# Altium schematic symbol library My library.SCHLIB: 126 symbols
Pins are listed as number, name and electrical type; pins without a type are passive.

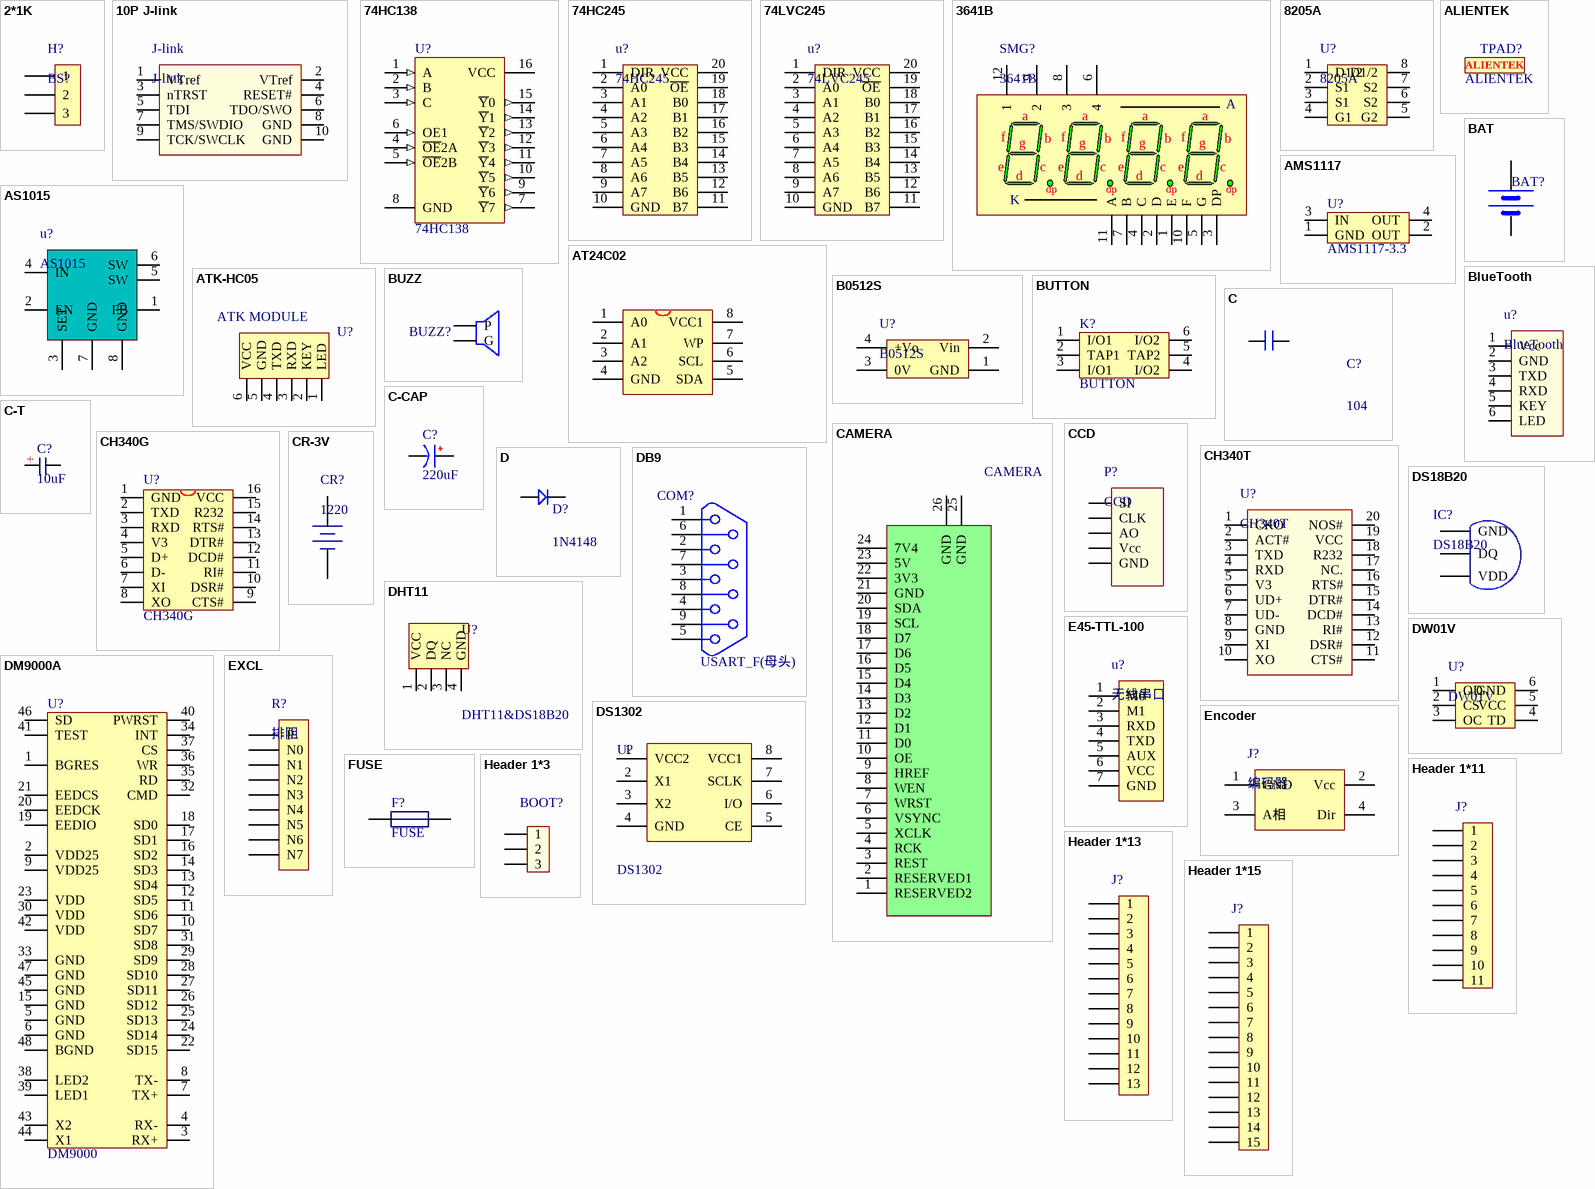
[diagram p0: symbols 2*1K to Header 1*15]

## 2*1K
designator H?, comment BS?
OLED模式选择电阻焊盘
footprint BS (Footprint not found)
pins: 1, 2, 3

## 10P J-link
designator J-link, comment J-link
footprint 10P J-link
footprint 10P J-link-S
pins: 1 VTref, 2 VTref, 3 nTRST, 4 RESET#, 5 TDI, 6 TDO/SWO, 7 TMS/SWDIO, 8 GND, 9 TCK/SWCLK, 10 GND

## 74HC138
designator U?
138译码器; Published: 17-Jul-2002; LatestRevisionDate: 13-Apr-2006; LatestRevisionNote: IPC-7351 Footprint Added.; DatasheetVersion: Nov-1999; PackageVersion: 2000; PackageReference: M16D; Publisher: Altium Limited; PackageDescription: 16-Pin Small Outline Package 1.27 mm Pitch; ComponentLink1Description: Manufacturer Link; ComponentLink1URL: http://www.fairchildsemi.com/; ComponentLink2Description: Datasheet; ComponentLink2URL: http://www.fairchildsemi.com/ds/74%2F74AC138.pdf
footprint NSO16_M (SOIC, 16-Leads, Body 9.9x3.9mm, Pitch 1.27mm, IPC Low Density)
pins: 1 A (in), 2 B (in), 3 C (in), 4 ~{OE}2A (in), 5 ~{OE}2B (in), 6 OE1 (in), 7 ~{Y}7 (out), 8 GND (power), 9 ~{Y}6 (out), 10 ~{Y}5 (out), 11 ~{Y}4 (out), 12 ~{Y}3 (out), 13 ~{Y}2 (out), 14 ~{Y}1 (out), 15 ~{Y}0 (out), 16 VCC (power)

## 74HC245
designator u?
footprint Sop-20 (74ls244)
pins: 1 DIR, 2 A0, 3 A1, 4 A2, 5 A3, 6 A4, 7 A5, 8 A6, 9 A7, 10 GND, 11 B7, 12 B6, 13 B5, 14 B4, 15 B3, 16 B2, 17 B1, 18 B0, 19 ~{OE}, 20 VCC

## 74LVC245
designator u?
footprint TSSop20 (Shrink Small Outline; 20 Leads; Body Width 4.4 mm; Pitch 0.65 mm)
pins: 1 DIR, 2 A0, 3 A1, 4 A2, 5 A3, 6 A4, 7 A5, 8 A6, 9 A7, 10 GND, 11 B7, 12 B6, 13 B5, 14 B4, 15 B3, 16 B2, 17 B1, 18 B0, 19 ~{OE}, 20 VCC

## 3641B
designator SMG?
0.36寸4位共阳数码管; 版权归属: 源创客; BOM名称: 0.36寸4位共阳; 学习资源: www.ooocke.com
footprint SMG 0.36-4P (30*14*7.2mm(长宽厚))
pins: 1 E "Anode", 2 D "Anode", 3 DP "Anode", 4 C "Anode", 5 G "Anode", 6 4 "Cathode", 7 B "Anode", 8 3 "Anode", 9 2 "Anode", 10 F "Anode", 11 A "Anode", 12 1 "Cathode"
text: a; f; b; g; e; c; d; dp; K

## 8205A
designator U?
共漏极双MOS
footprint SOT-23-6
footprint TSSOP-8
pins: 1 D1/2, 2 S1, 3 S1, 4 G1, 5 G2, 6 S2, 7 S2, 8 D1/2

## ALIENTEK
designator TPAD?
footprint ALIENTEK_PAD1

## AMS1117
designator U?, comment AMS1117-3.3
footprint AMS1117
pins: 1 GND, 2 OUT, 3 IN, 4 OUT

## AS1015
designator u?
舵机调压芯片
footprint sop-8
pins: 1 FB, 2 EN, 3 SET, 4 IN, 5 SW, 6 SW, 7 GND, 8 GND

## AT24C02
designator U?, comment 24C02
footprint SOP-8 (SOP)
pins: 1 A0, 2 A1, 3 A2, 4 GND, 5 SDA, 6 SCL, 7 WP, 8 VCC1

## ATK-HC05
designator U?, comment ATK MODULE
ATK-HC05
footprint HEAD6
pins: 1 LED, 2 KEY, 3 RXD, 4 TXD, 5 GND, 6 VCC

## B0512S
designator U?
5—12V升压芯片
footprint B0512S
pins: 1 GND, 2 Vin, 3 0V, 4 +Vo

## BAT
designator BAT?, comment BATT  (value not drawn)
footprint BATM (BAT)
pins: 1 VCC, 2 GND

## BlueTooth
designator u?
蓝牙
footprint Bluetooth
pins: 1 Vcc, 2 GND, 3 TXD, 4 RXD, 5 KEY, 6 LED

## BUTTON
designator K?
footprint BTN8.5*8.5 (8.5MM*8.5MM)
footprint BTN7*7 (7mm*7mm)
pins: 1 I/O1, 2 TAP1, 3 I/O1, 4 I/O2, 5 TAP2, 6 I/O2

## BUZZ
designator BUZZ?  (value not drawn)
蜂鸣器
footprint BUZZ0.25
footprint BELL-5
footprint BUZZ_8
pins: 1 P, 2 G

## C
designator C?, comment 104
无极性贴片电容
footprint 0805
footprint 0603
pins: 1, 2

## C-CAP
designator C?, comment 220uF
直插电解电容
footprint CAP 1.5*4*8 (脚距1.5mm直径4mm高度8mm)
footprint CAP 2.0*5*11 (脚距2mm直径5mm高度11mm)
footprint CAP 2.5*5*11 (脚距2.5mm直径5mm高度11mm)
footprint CAP 2.5*6.3*7 (脚距2.5mm直径6.3mm高度7mm)
footprint CAP 3.5*8*11.5 (脚距3.5mm直径8mm高度11.5mm)
footprint CAP 5.0*10*12.5 (脚距5mm直径10mm高度12.5mm)
footprint CAP 7.5*16*25 (脚距7.5mm直径16mm高度25mm)
footprint CAP 10*22*31.5 (脚距10mm直径22mm高度31.5mm)
pins: 1 VCC, 2 GND

## C-T
designator C?, comment 10uF
钽电容
footprint C3216-A (Footprint not found)
footprint C3528-B (Footprint not found)
footprint C6032-C
footprint C7343-D/E
footprint C7361-V
pins: 1, 2
text: +

## CAMERA
designator CAMERA  (value not drawn)
鹰眼
footprint FH12-24S-0.5SH (Connector; FH12 Series; 24 Position; 0.5mm Spaced Bottom Contact)
footprint YINGYAN (Connector; FH12 Series; 24 Position; 0.5mm Spaced Bottom Contact)
footprint YINGYAN_PUSH
pins: 1 RESERVED2, 2 RESERVED1, 3 REST, 4 RCK, 5 XCLK, 6 VSYNC, 7 WRST, 8 WEN, 9 HREF, 10 OE, 11 D0, 12 D1, 13 D2, 14 D3, 15 D4, 16 D5, 17 D6, 18 D7, 19 SCL, 20 SDA, 21 GND, 22 3V3, 23 5V, 24 7V4, 25 GND, 26 GND

## CCD
designator P?
蓝宙CCD
footprint CCD-5
pins: 1 SI, 2 CLK, 3 AO, 4 Vcc, 5 GND

## CH340G
designator U?
USB2UART
footprint SOP16M
pins: 1 GND, 2 TXD, 3 RXD, 4 V3, 5 D+, 6 D-, 7 XI, 8 XO, 9 CTS#, 10 DSR#, 11 RI#, 12 DCD#, 13 DTR#, 14 RTS#, 15 R232, 16 VCC

## CH340T
designator U?
USB2UART
footprint SSOP20_N (7.2*7.8*1.6（长宽高）)
pins: 1 CKO, 2 ACT#, 3 TXD, 4 RXD, 5 V3, 6 UD+, 7 UD-, 8 GND, 9 XI, 10 XO, 11 CTS#, 12 DSR#, 13 RI#, 14 DCD#, 15 DTR#, 16 RTS#, 17 NC., 18 R232, 19 VCC, 20 NOS#

## CR-3V
designator CR?, comment 1220
微型电池; 版权归属: 源创客; BOM名称: 微型电池; 学习资源: www.ooocke.com
footprint CR1220 (纽扣电池座)
pins: 1 DC+, 2 DC-

## D
designator D?, comment 1N4148
二极管
footprint SOD-123
footprint DIODE_SOP (4148)
footprint DIODE-L (6A10)
footprint DIODE-M (1N5822)
footprint DIODE_S (1N4007)
footprint DIODE_3*5.3 (ME:SS14/SS24;L:5.3mm;W:3mm;)
footprint DIODE_4*5.6 (ME:RS2J.L:5.6mm;W:4mm)
footprint DIODE_6.2*8.13 (ME:RS2J.L:8.13mm;W:6.2mm)
pins: 1, 2

## DB9
designator COM?, comment USART_F(母头)
标准串口
footprint DB9
pins: 1, 2, 3, 4, 5, 6, 7, 8, 9
2 alternate drawings of the same symbol

## DHT11
designator U?, comment DHT11&DS18B20
数字温湿度传感器
footprint DHT11 (2.54mm)
pins: 1 VCC, 2 DQ, 3 NC, 4 GND

## DM9000A
designator U?, comment DM9000
footprint LQFP48S (DPIN-0.5)
footprint mTQFP48 (5.8mm)
pins: 1 BGRES, 2 VDD25, 3 RX+, 4 RX-, 5 GND, 6 GND, 7 TX+, 8 TX-, 9 VDD25, 10 SD7, 11 SD6, 12 SD5, 13 SD4, 14 SD3, 15 GND, 16 SD2, 17 SD1, 18 SD0, 19 EEDIO, 20 EEDCK, 21 EEDCS, 22 SD15, 23 VDD, 24 SD14, 25 SD13, 26 SD12, 27 SD11, 28 SD10, 29 SD9, 30 VDD, 31 SD8, 32 CMD, 33 GND, 34 INT, 35 RD, 36 WR, 37 CS, 38 LED2, 39 LED1, 40 PWRST, 41 TEST, 42 VDD, 43 X2, 44 X1, 45 GND, 46 SD, 47 GND, 48 BGND

## DS18B20
designator IC?
数字温度计; 版权归属: 源创客; BOM名称: 数字温度计; 学习资源: www.ooocke.com
footprint TO92A (92晶体管)
pins: 1 GND, 2 DQ, 3 VDD

## DS1302
designator U?
实时时钟芯片; 版权归属: 源创客; BOM名称: 实时时钟芯片; 学习资源: www.ooocke.com
footprint SOP-8
pins: 1 VCC2, 2 X1, 3 X2, 4 GND, 5 CE, 6 I/O, 7 SCLK, 8 VCC1

## DW01V
designator U?
一节锂电池保护IC
footprint SOT-23-6
pins: 1 OD, 2 CS, 3 OC, 4 TD, 5 VCC, 6 GND

## E45-TTL-100
designator u?, comment 无线串口
footprint E45-TTL-100
pins: 1 M0, 2 M1, 3 RXD, 4 TXD, 5 AUX, 6 VCC, 7 GND

## Encoder
designator J?, comment 编码器
footprint PH254*4
footprint XH2.54*4-w
footprint SMT - 4
pins: 1 GND, 2 Vcc, 3 A相, 4 Dir

## EXCL
designator R?, comment 排阻
footprint HDR1X9
pins: 1 P, 2 N0, 3 N1, 4 N2, 5 N3, 6 N4, 7 N5, 8 N6, 9 N7

## FUSE
designator F?
自恢复熔断器
footprint 1206
pins: 1, 2

## Header 1*3
designator BOOT?
footprint HDR1*3
pins: 1, 2, 3

## Header 1*11
designator J?  (value not drawn)
footprint HDR1X11
pins: 1, 2, 3, 4, 5, 6, 7, 8, 9, 10, 11

## Header 1*13
designator J?  (value not drawn)
footprint HDR1X13
pins: 1, 2, 3, 4, 5, 6, 7, 8, 9, 10, 11, 12, 13

## Header 1*15
designator J?  (value not drawn)
footprint HDR1X15
pins: 1, 2, 3, 4, 5, 6, 7, 8, 9, 10, 11, 12, 13, 14, 15

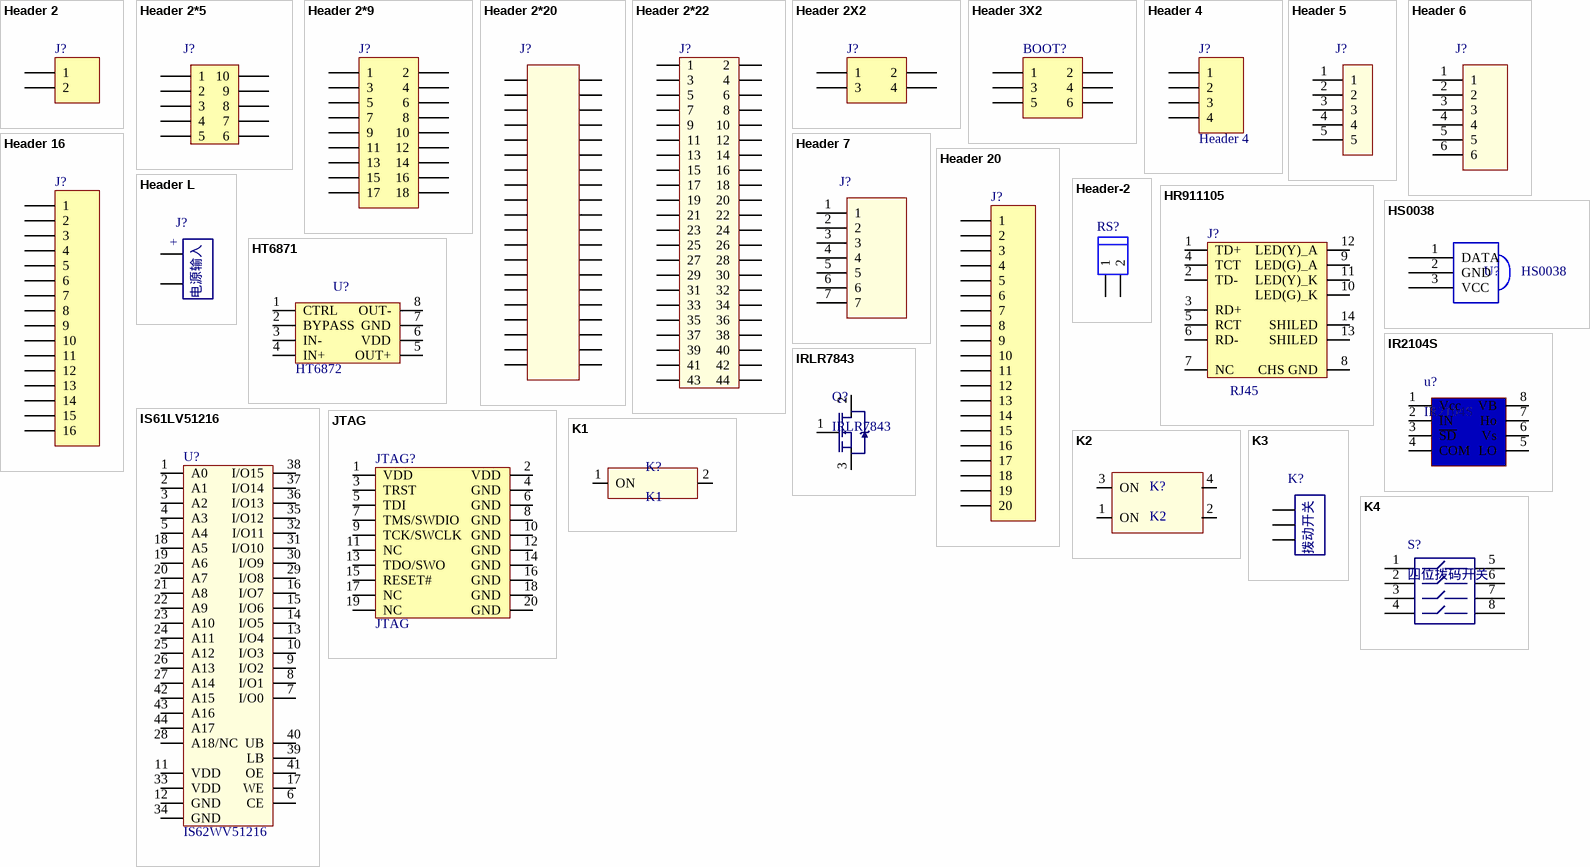
[diagram p1: symbols Header 2 to K4]

## Header 2
designator J?, comment VREF_SEL  (value not drawn)
Header, 2-Pin; LatestRevisionDate: 17-Jul-2002; LatestRevisionNote: Re-released for DXP Platform.; Publisher: Altium Limited
footprint HDR1X2
3D model HEADER_1x2 (PCB3D Model)
pins: 1, 2

## Header 2*5
designator J?  (value not drawn)
footprint Header2*5
pins: 1, 2, 3, 4, 5, 6, 7, 8, 9, 10

## Header 2*9
designator J?, comment OV7670  (value not drawn)
Header, 9-Pin, Dual row; LatestRevisionDate: 17-Jul-2002; LatestRevisionNote: Re-released for DXP Platform.; Publisher: Altium Limited
footprint HDR2X9 (Connector; Header; 9x2 Position)
pins: 1, 2, 3, 4, 5, 6, 7, 8, 9, 10, 11, 12, 13, 14, 15, 16, 17, 18

## Header 2*20
designator J?  (value not drawn)
footprint HDR2*20
pins: 1, 2, 3, 4, 5, 6, 7, 8, 9, 10, 11, 12, 13, 14, 15, 16, 17, 18, 19, 20, 21, 22, 23, 24, 25, 26, 27, 28, 29, 30, 31, 32, 33, 34, 35, 36, 37, 38, 39, 40

## Header 2*22
designator J?, comment HEAD2*22  (value not drawn)
footprint HEAD2*22 (PIN:2.54mm;HEAD;)
pins: 1, 2, 3, 4, 5, 6, 7, 8, 9, 10, 11, 12, 13, 14, 15, 16, 17, 18, 19, 20, 21, 22, 23, 24, 25, 26, 27, 28, 29, 30, 31, 32, 33, 34, 35, 36, 37, 38, 39, 40, 41, 42, 43, 44

## Header 2X2
designator J?, comment USART1  (value not drawn)
Header, 2-Pin, Dual row; LatestRevisionDate: 17-Jul-2002; LatestRevisionNote: Re-released for DXP Platform.; Publisher: Altium Limited
footprint HDR2X2 (Connector; Header; 2x2 Position)
pins: 1, 2, 3, 4

## Header 3X2
designator BOOT?  (value not drawn)
Header, 3-Pin, Dual row; LatestRevisionDate: 17-Jul-2002; LatestRevisionNote: Re-released for DXP Platform.; Publisher: Altium Limited
footprint HDR2X3 (Connector; Header; 3x2 Position)
pins: 1, 2, 3, 4, 5, 6

## Header 4
designator J?
Header, 4-Pin; LatestRevisionDate: 17-Jul-2002; LatestRevisionNote: Re-released for DXP Platform.; Publisher: Altium Limited
footprint HDR1X4
signal-integrity model Connector
pins: 1, 2, 3, 4

## Header 5
designator J?  (value not drawn)
Header ,5-pin
footprint HDR1x5
footprint PH254*5 (Footprint not found)
footprint SMT-5
footprint XH2.54*5-w
pins: 1, 2, 3, 4, 5

## Header 6
designator J?, comment Header6  (value not drawn)
Header,6-pin
footprint PH20*6
pins: 1, 2, 3, 4, 5, 6

## Header 7
designator J?  (value not drawn)
footprint HDR1x7
pins: 1, 2, 3, 4, 5, 6, 7

## Header 16
designator J?, comment HEAD1*16  (value not drawn)
Header, 16-Pin; LatestRevisionDate: 17-Jul-2002; LatestRevisionNote: Re-released for DXP Platform.; Publisher: Altium Limited
footprint HDR1X16 (Connector; Header; 16 Position)
signal-integrity model Connector
pins: 1, 2, 3, 4, 5, 6, 7, 8, 9, 10, 11, 12, 13, 14, 15, 16

## Header 20
designator J?, comment HEAD1*20  (value not drawn)
Header, 20-Pin; LatestRevisionDate: 17-Jul-2002; LatestRevisionNote: Re-released for DXP Platform.; Publisher: Altium Limited
footprint HDR1X20
signal-integrity model Connector
pins: 1, 2, 3, 4, 5, 6, 7, 8, 9, 10, 11, 12, 13, 14, 15, 16, 17, 18, 19, 20

## Header L
designator J?, comment 电源  (value not drawn)
硅胶线
footprint L_P2
pins: 1, 2
text: +; 电源输入

## Header-2
designator RS?, comment RS485  (value not drawn)
footprint HEAD2H (Footprint not found)
footprint HEAD2L (Footprint not found)
footprint HEAD2L-0.8
footprint HEAD2W (Footprint not found)
pins: 1, 2

## HR911105
designator J?, comment RJ45
footprint HR911105A (NET_WORK)
pins: 1 TD+, 2 TD-, 3 RD+, 4 TCT, 5 RCT, 6 RD-, 7 NC, 8 CHS GND, 9 LED(G)_A, 10 LED(G)_K, 11 LED(Y)_K, 12 LED(Y)_A, 13 SHILED, 14 SHILED

## HS0038
designator U?
footprint HS0038
pins: 1 DATA, 2 GND, 3 VCC

## HT6871
designator U?, comment HT6872
HT6871
footprint SOP-8 (SOP)
pins: 1 CTRL, 2 BYPASS, 3 IN-, 4 IN+, 5 OUT+, 6 VDD, 7 GND, 8 OUT-

## IR2104S
designator u?
半桥驱动
footprint SOP-8
pins: 1 Vcc, 2 IN, 3 ~{SD}, 4 COM, 5 LO, 6 Vs, 7 Ho, 8 VB

## IRLR7843
designator Q?
N-MOS
footprint TO-252
pins: 1, 2, 3

## IS61LV51216
designator U?, comment IS62WV51216
footprint TSOP44
pins: 1 A0, 2 A1, 3 A2, 4 A3, 5 A4, 6 CE, 7 I/O0, 8 I/O1, 9 I/O2, 10 I/O3, 11 VDD, 12 GND, 13 I/O4, 14 I/O5, 15 I/O6, 16 I/O7, 17 WE, 18 A5, 19 A6, 20 A7, 21 A8, 22 A9, 23 A10, 24 A11, 25 A12, 26 A13, 27 A14, 28 A18/NC, 29 I/O8, 30 I/O9, 31 I/O10, 32 I/O11, 33 VDD, 34 GND, 35 I/O12, 36 I/O13, 37 I/O14, 38 I/O15, 39 LB, 40 UB, 41 OE, 42 A15, 43 A16, 44 A17

## JTAG
designator JTAG?
footprint JTAG (ULINK_JTAG-20)
footprint JTAG_20 (JTAG,20PIN)
pins: 1 VDD, 2 VDD, 3 TRST, 4 GND, 5 TDI, 6 GND, 7 TMS/SWDIO, 8 GND, 9 TCK/SWCLK, 10 GND, 11 NC, 12 GND, 13 TDO/SWO, 14 GND, 15 RESET#, 16 GND, 17 NC, 18 GND, 19 NC, 20 GND

## K1
designator K?
一位拨码开关
footprint K1 4*10
pins: 1 ON, 2 ON

## K2
designator K?
两位拨码开关
footprint K2 7*10
pins: 1 ON, 2 ON, 3 ON, 4 ON

## K3
designator K?  (value not drawn)
拨动开关
footprint K3 8*13*10
pins: 1, 2, 3

## K4
designator S?, comment 四位拨码开关
footprint DIP*4
pins: 1, 2, 3, 4, 5, 6, 7, 8

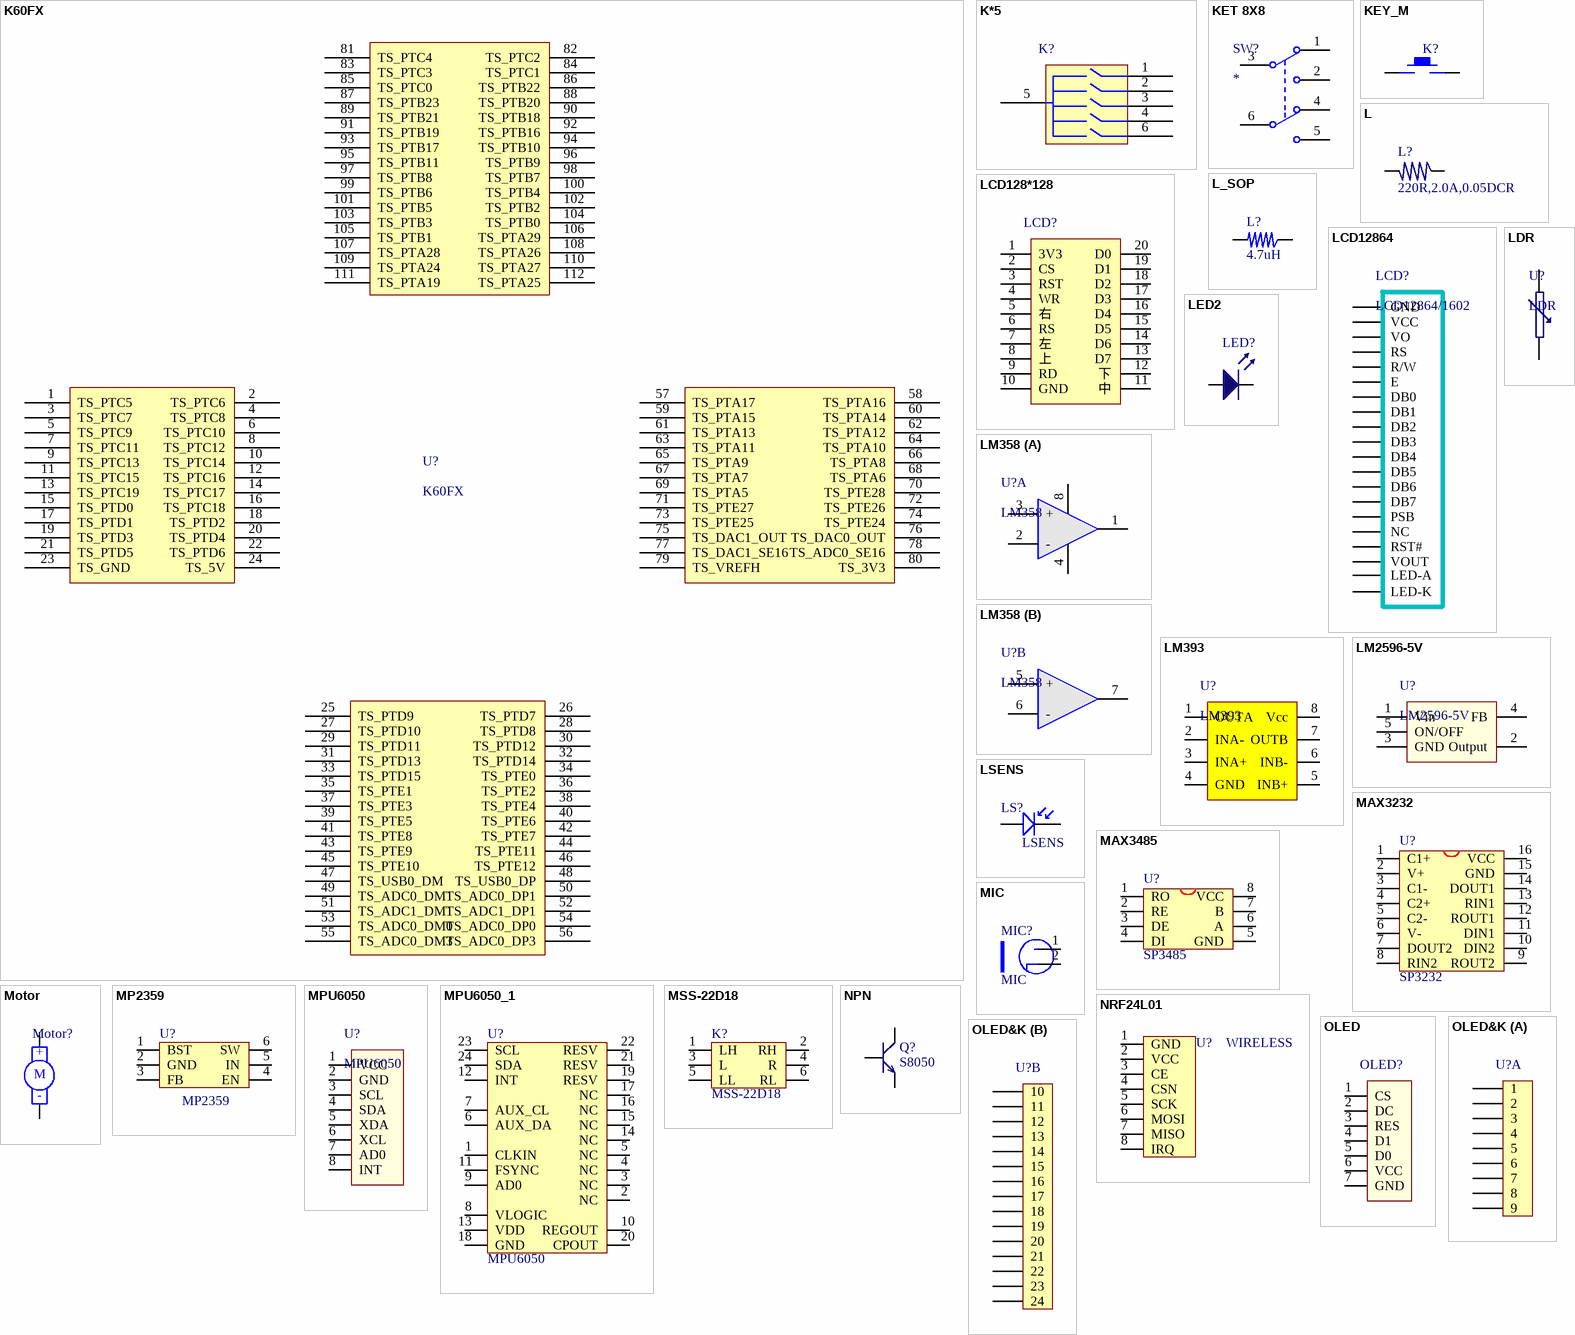
[diagram p2: symbols K60FX to OLED&K]

## K60FX
designator U?
footprint K60
footprint K601
pins: 1 TS_PTC5, 2 TS_PTC6, 3 TS_PTC7, 4 TS_PTC8, 5 TS_PTC9, 6 TS_PTC10, 7 TS_PTC11, 8 TS_PTC12, 9 TS_PTC13, 10 TS_PTC14, 11 TS_PTC15, 12 TS_PTC16, 13 TS_PTC19, 14 TS_PTC17, 15 TS_PTD0, 16 TS_PTC18, 17 TS_PTD1, 18 TS_PTD2, 19 TS_PTD3, 20 TS_PTD4, 21 TS_PTD5, 22 TS_PTD6, 23 TS_GND, 24 TS_5V, 25 TS_PTD9, 26 TS_PTD7, 27 TS_PTD10, 28 TS_PTD8, 29 TS_PTD11, 30 TS_PTD12, 31 TS_PTD13, 32 TS_PTD14, 33 TS_PTD15, 34 TS_PTE0, 35 TS_PTE1, 36 TS_PTE2, 37 TS_PTE3, 38 TS_PTE4, 39 TS_PTE5, 40 TS_PTE6, 41 TS_PTE8, 42 TS_PTE7, 43 TS_PTE9, 44 TS_PTE11, 45 TS_PTE10, 46 TS_PTE12, 47 TS_USB0_DM, 48 TS_USB0_DP, 49 TS_ADC0_DM1, 50 TS_ADC0_DP1, 51 TS_ADC1_DM1, 52 TS_ADC1_DP1, 53 TS_ADC0_DM0, 54 TS_ADC0_DP0, 55 TS_ADC0_DM3, 56 TS_ADC0_DP3, 57 TS_PTA17, 58 TS_PTA16, 59 TS_PTA15, 60 TS_PTA14, 61 TS_PTA13, 62 TS_PTA12, 63 TS_PTA11, 64 TS_PTA10, 65 TS_PTA9, 66 TS_PTA8, 67 TS_PTA7, 68 TS_PTA6, 69 TS_PTA5, 70 TS_PTE28, 71 TS_PTE27, 72 TS_PTE26, 73 TS_PTE25, 74 TS_PTE24, 75 TS_DAC1_OUT, 76 TS_DAC0_OUT, 77 TS_DAC1_SE16, 78 TS_ADC0_SE16, 79 TS_VREFH, 80 TS_3V3, 81 TS_PTC4, 82 TS_PTC2, 83 TS_PTC3, 84 TS_PTC1, 85 TS_PTC0, 86 TS_PTB22, 87 TS_PTB23, 88 TS_PTB20, 89 TS_PTB21, 90 TS_PTB18, 91 TS_PTB19, 92 TS_PTB16, 93 TS_PTB17, 94 TS_PTB10, 95 TS_PTB11, 96 TS_PTB9, 97 TS_PTB8, 98 TS_PTB7, 99 TS_PTB6, 100 TS_PTB4, 101 TS_PTB5, 102 TS_PTB2, 103 TS_PTB3, 104 TS_PTB0, 105 TS_PTB1, 106 TS_PTA29, 107 TS_PTA28, 108 TS_PTA26, 109 TS_PTA24, 110 TS_PTA27, 111 TS_PTA19, 112 TS_PTA25

## K*5
designator K?  (value not drawn)
五向按键
footprint K*5
pins: 1, 2, 3, 4, 5 com, 6

## KET 8X8
designator SW?
8*8自锁开关; 版权归属: 源创客; BOM名称: 8*8自锁开关; 学习资源: www.ooocke.com
footprint KFT DIP-8X8 (自锁开关，规格：8*8mm)
pins: 1 NC1, 2 COM2, 3 NO1, 4 NO2, 5 COM2, 6 NC2

## KEY_M
designator K?  (value not drawn)
两脚贴片按键
footprint KEY_M
footprint KEY_2
footprint KEY_SOP_BG (KEY?)
pins: 1, 2

## L
designator L?, comment 220R,2.0A,0.05DCR
电感
footprint L_SOP74
footprint L-DIP
pins: 1, 2

## L_SOP
designator L?, comment 4.7uH
12*12
footprint L_SOP74 (7.4*7.4)
footprint L_SOP12
pins: 1, 2

## LCD128*128
designator LCD?  (value not drawn)
山外1.44寸液晶
footprint LCD128*128
pins: 1 3V3, 2 CS, 3 RST, 4 WR, 5 右, 6 RS, 7 左, 8 上, 9 RD, 10 GND, 11 中, 12 下, 13 D7, 14 D6, 15 D5, 16 D4, 17 D3, 18 D2, 19 D1, 20 D0

## LCD12864
designator LCD?, comment LCD12864/1602
液晶
footprint HDR1X20
pins: 1 GND, 2 VCC, 3 VO, 4 RS, 5 R/W, 6 E, 7 DB0, 8 DB1, 9 DB2, 10 DB3, 11 DB4, 12 DB5, 13 DB6, 14 DB7, 15 PSB, 16 NC, 17 RST#, 18 VOUT, 19 LED-A, 20 LED-K

## LDR
designator U?
光敏电阻
footprint HDR1x2
pins: 1, 2

## LED2
designator LED?, comment LED1  (value not drawn)
Typical RED, GREEN, YELLOW, AMBER GaAs LED; Published: 8-Jun-2000; LatestRevisionDate: 17-Jul-2002; LatestRevisionNote: Re-released for DXP Platform.; PackageDocument: Feb-2002; PackageReference: 3.2X1.6X1.1; Publisher: Altium Limited
footprint SMDLED
simulation model LED2 (Diode)
footprint IR_LED
pins: 1 A, 2 K

## LM358
designator U?
双运放
footprint SOP-8
part A pins: 1 OUT1, 2 -, 3 +, 4 V- (power), 8 V+ (power)
part B pins: 5 +, 6 -, 7 OUT2

## LM393
designator U?
双差分放大
footprint SOP-8
pins: 1 OUTA, 2 INA-, 3 INA+, 4 GND, 5 INB+, 6 INB-, 7 OUTB, 8 Vcc

## LM2596-5V
designator U?
稳压芯片
footprint TO-263-5
pins: 1 Vin, 2 Output, 3 GND, 4 FB, 5 ON/OFF

## LSENS
designator LS?
LIGHT SENS
footprint SMDLED
pins: 1, 2

## MAX3232
designator U?, comment SP3232
footprint SOP16M
pins: 1 C1+, 2 V+, 3 C1-, 4 C2+, 5 C2-, 6 V-, 7 DOUT2, 8 RIN2, 9 ROUT2, 10 DIN2, 11 DIN1, 12 ROUT1, 13 RIN1, 14 DOUT1, 15 GND, 16 VCC

## MAX3485
designator U?, comment SP3485
footprint SOP-8 (SOP)
pins: 1 RO, 2 RE, 3 DE, 4 DI, 5 GND, 6 A, 7 B, 8 VCC

## MIC
designator MIC?
footprint MIC-6022 (6mm*2.2mm)
footprint MIC-9767 (9.7mm*6.7mm)
pins: 1 VCC, 2 GND
1 alternate drawing of the same symbol

## Motor
designator Motor?  (value not drawn)
电机
footprint power
pins: 1, 2
text: +; M; -

## MP2359
designator U?
DC DC Step Down IC
footprint SOT-23-6
pins: 1 BST, 2 GND, 3 FB, 4 EN, 5 IN, 6 SW

## MPU6050
designator U?
footprint MPU6050 J (Footprint not found)
pins: 1 VCC, 2 GND, 3 SCL, 4 SDA, 5 XDA, 6 XCL, 7 AD0, 8 INT

## MPU6050_1
designator U?, comment MPU6050
9轴运动处理传感器
footprint QFN24
pins: 1 CLKIN, 2 NC, 3 NC, 4 NC, 5 NC, 6 AUX_DA, 7 AUX_CL, 8 VLOGIC, 9 AD0, 10 REGOUT, 11 FSYNC, 12 INT, 13 VDD, 14 NC, 15 NC, 16 NC, 17 NC, 18 GND, 19 RESV, 20 CPOUT, 21 RESV, 22 RESV, 23 SCL, 24 SDA

## MSS-22D18
designator K?
六脚波动开关
footprint MSS-22D18-DIP (2P2T;3.5*9mm;2*3PIN)
footprint MSS-22D18-SOP (2P2T;3.5*9mm;2*3PIN)
pins: 1 LH, 2 RH, 3 L, 4 R, 5 LL, 6 RL

## NPN
designator Q?, comment S8050
8050/BCW846/BCW847
footprint SOT-23R (SOT-23; 3 Leads; Body 3.0 x 2.5 mm, inc. leads (LxW max))
pins: 1 E, 2 B, 3 C

## NRF24L01
designator U?, comment WIRELESS
footprint NRF24L01
pins: 1 GND, 2 VCC, 3 CE, 4 CSN, 5 SCK, 6 MOSI, 7 MISO, 8 IRQ

## OLED
designator OLED?  (value not drawn)
footprint OLED J (Footprint not found)
footprint OLED
pins: 1 CS, 2 DC, 3 RES, 4 D1, 5 D0, 6 VCC, 7 GND

## OLED&K
designator U?  (value not drawn)
调车板
footprint OLED&K
part A pins: 1, 2, 3, 4, 5, 6, 7, 8, 9
part B pins: 10, 11, 12, 13, 14, 15, 16, 17, 18, 19, 20, 21, 22, 23, 24

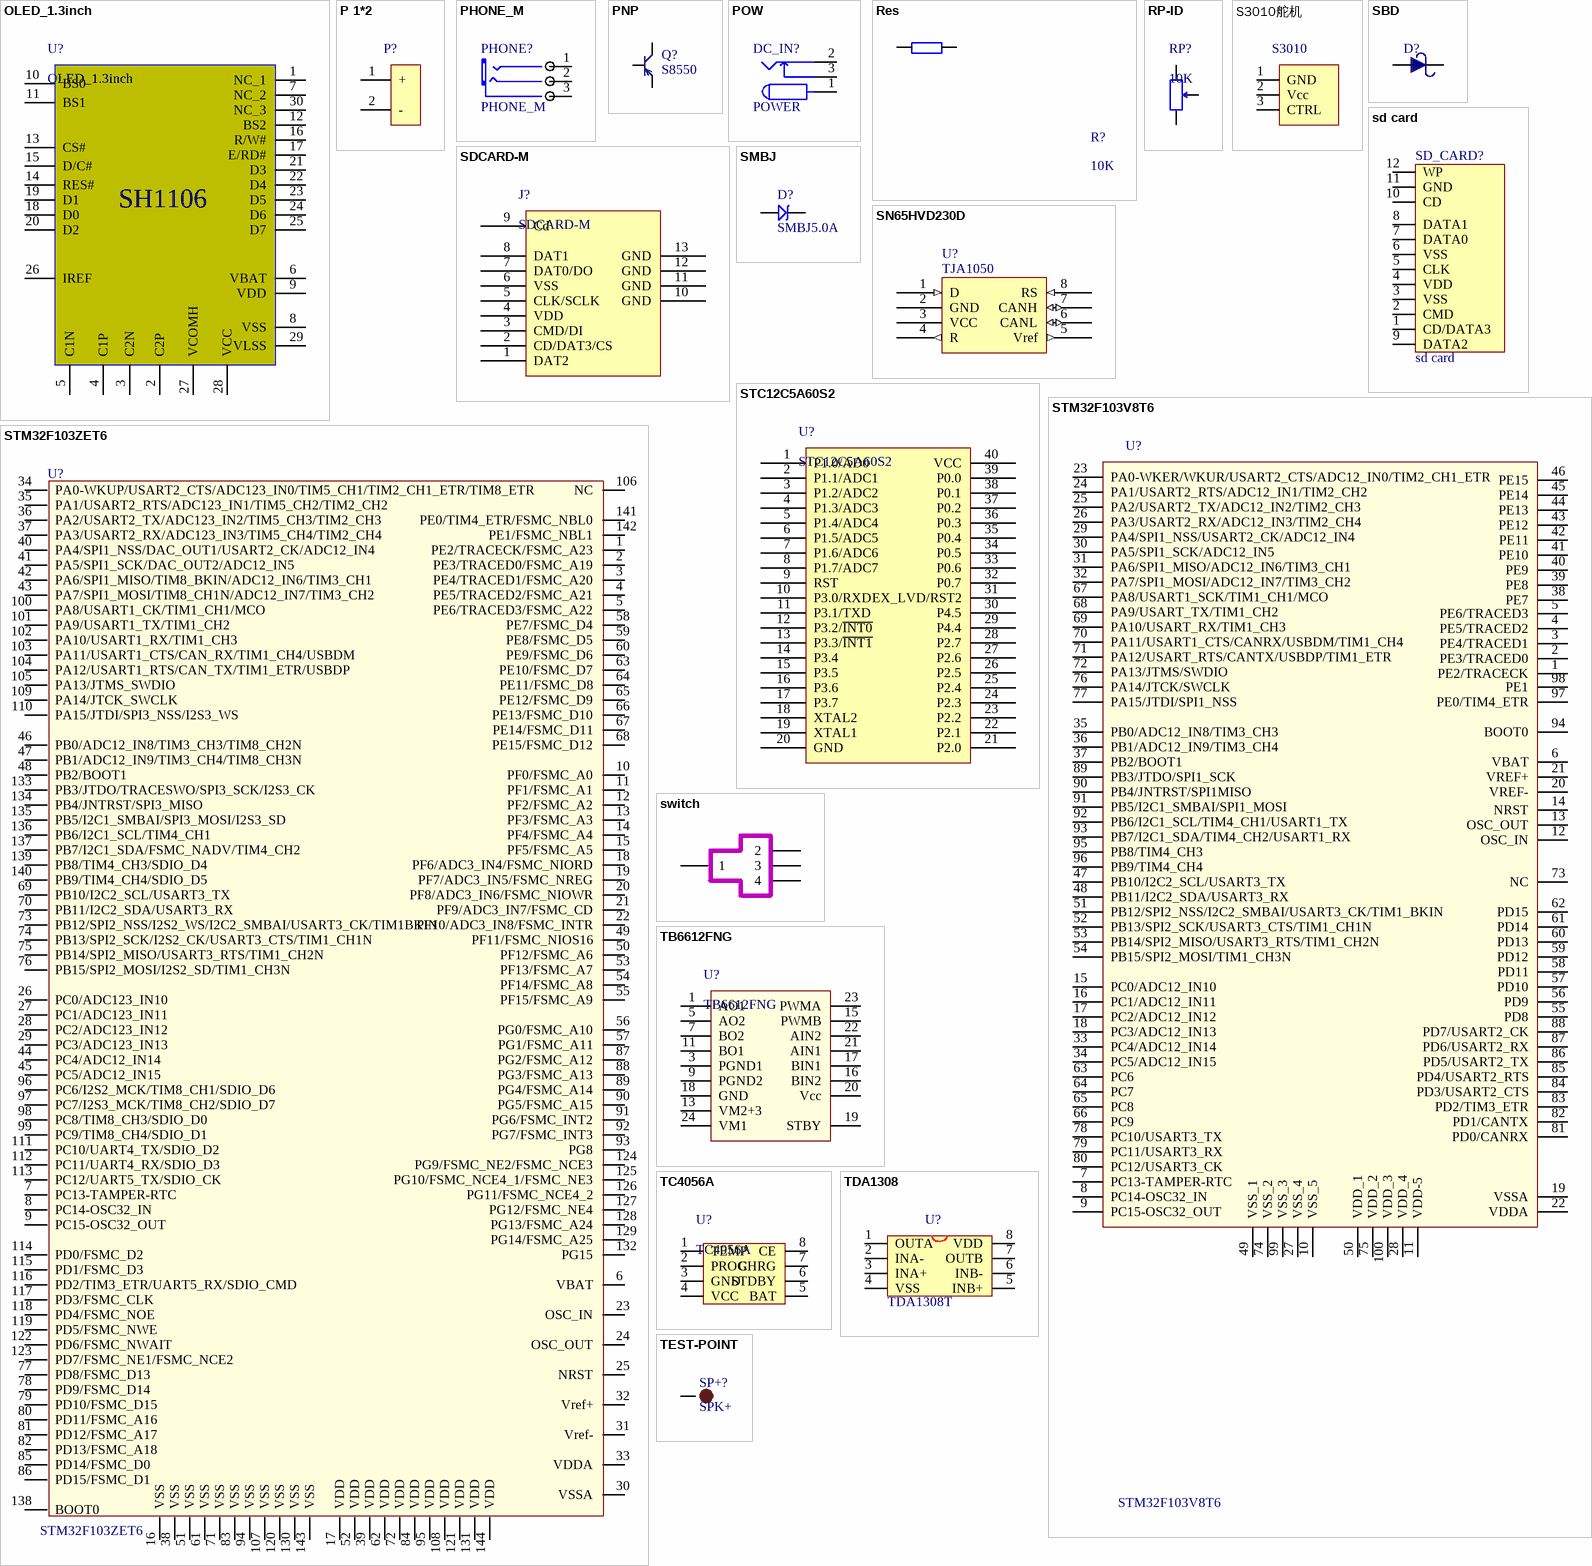
[diagram p3: symbols OLED_1.3inch to TEST-POINT]

## OLED_1.3inch
designator U?
OLED1.3寸裸屏
footprint OLED_1.3inch
pins: 1 NC_1, 2 C2P, 3 C2N, 4 C1P, 5 C1N, 6 VBAT, 7 NC_2, 8 VSS, 9 VDD, 10 BS0, 11 BS1, 12 BS2, 13 CS#, 14 RES#, 15 D/C#, 16 R/W#, 17 E/RD#, 18 D0, 19 D1, 20 D2, 21 D3, 22 D4, 23 D5, 24 D6, 25 D7, 26 IREF, 27 VCOMH, 28 VCC, 29 VLSS, 30 NC_3
text: SH1106

## P 1*2
designator P?  (value not drawn)
电源接口
footprint power
footprint T-DIP
pins: 1 +, 2 -

## PHONE_M
designator PHONE?
footprint PHONE_ST
pins: 1 CHL, 2 CHR, 3 COM

## PNP
designator Q?, comment S8550
8550/BCW68
footprint SOT-23R (SOT-23; 3 Leads; Body 3.0 x 2.5 mm, inc. leads (LxW max))
pins: 1 E, 2 B, 3 C

## POW
designator DC_IN?, comment POWER
footprint POWER (DC_IN)
footprint DC10B
pins: 1, 2, 3

## Res
designator R?, comment 10K
电阻
footprint 0805
footprint 0603
pins: 1, 2

## RP-ID
designator RP?, comment 10K
插件单联电位器; BOM名称: 插件电位器; 版权归属: 源创客; 学习资源: www.ooocke.com
footprint 3296W (Precise Multi-Winding Adjustable Resistor)
footprint RM065 (蓝白可调电位器)
pins: 1, 2, 3

## S3010舵机
designator S3010, comment ？  (value not drawn)
舵机
footprint S3010
pins: 1 GND, 2 Vcc, 3 CTRL

## SBD
designator D?  (value not drawn)
肖特基二极管
footprint SOD-323
pins: 1, 2

## sd card
designator SD_CARD?
footprint SDCARD_S (SDCARD_SMALL)
footprint SDCARD_L
pins: 1 CD/DATA3, 2 CMD, 3 VSS, 4 VDD, 5 CLK, 6 VSS, 7 DATA0, 8 DATA1, 9 DATA2, 10 CD, 11 GND, 12 WP

## SDCARD-M
designator J?
TF卡槽
footprint SDCARD-M (TF卡)
pins: 1 DAT2, 2 CD/DAT3/CS, 3 CMD/DI, 4 VDD, 5 CLK/SCLK, 6 VSS, 7 DAT0/DO, 8 DAT1, 9 Cd, 10 GND, 11 GND, 12 GND, 13 GND

## SMBJ
designator D?, comment SMBJ5.0A
TVS
footprint SMBJ
pins: 1, 2

## SN65HVD230D
designator U?, comment TJA1050
footprint SOP-8 (SSOP8)
footprint SO8
pins: 1 D (in), 2 GND (power), 3 VCC (power), 4 R (out), 5 Vref (out), 6 CANL (io), 7 CANH (io), 8 RS (in)
2 alternate drawings of the same symbol

## STC12C5A60S2
designator U?
51单片机
footprint DIP_TP40-600 (65.5*22.5*11(长宽高）)
pins: 1 P1.0/AD0, 2 P1.1/ADC1, 3 P1.2/ADC2, 4 P1.3/ADC3, 5 P1.4/ADC4, 6 P1.5/ADC5, 7 P1.6/ADC6, 8 P1.7/ADC7, 9 RST, 10 P3.0/RXD, 11 P3.1/TXD, 12 P3.2/~{INT0}, 13 P3.3/~{INT1}, 14 P3.4, 15 P3.5, 16 P3.6, 17 P3.7, 18 XTAL2, 19 XTAL1, 20 GND, 21 P2.0, 22 P2.1, 23 P2.2, 24 P2.3, 25 P2.4, 26 P2.5, 27 P2.6, 28 P2.7, 29 P4.4, 30 P4.5, 31 EX_LVD/RST2, 32 P0.7, 33 P0.6, 34 P0.5, 35 P0.4, 36 P0.3, 37 P0.2, 38 P0.1, 39 P0.0, 40 VCC

## STM32F103V8T6
designator U?
footprint LQFP100 (Footprint not found)
pins: 1 PE2/TRACECK, 2 PE3/TRACED0, 3 PE4/TRACED1, 4 PE5/TRACED2, 5 PE6/TRACED3, 6 VBAT, 7 PC13-TAMPER-RTC, 8 PC14-OSC32_IN, 9 PC15-OSC32_OUT, 10 VSS_5, 11 VDD-5, 12 OSC_IN, 13 OSC_OUT, 14 NRST, 15 PC0/ADC12_IN10, 16 PC1/ADC12_IN11, 17 PC2/ADC12_IN12, 18 PC3/ADC12_IN13, 19 VSSA, 20 VREF-, 21 VREF+, 22 VDDA, 23 PA0-WKER/WKUR/USART2_CTS/ADC12_IN0/TIM2_CH1_ETR, 24 PA1/USART2_RTS/ADC12_IN1/TIM2_CH2, 25 PA2/USART2_TX/ADC12_IN2/TIM2_CH3, 26 PA3/USART2_RX/ADC12_IN3/TIM2_CH4, 27 VSS_4, 28 VDD_4, 29 PA4/SPI1_NSS/USART2_CK/ADC12_IN4, 30 PA5/SPI1_SCK/ADC12_IN5, 31 PA6/SPI1_MISO/ADC12_IN6/TIM3_CH1, 32 PA7/SPI1_MOSI/ADC12_IN7/TIM3_CH2, 33 PC4/ADC12_IN14, 34 PC5/ADC12_IN15, 35 PB0/ADC12_IN8/TIM3_CH3, 36 PB1/ADC12_IN9/TIM3_CH4, 37 PB2/BOOT1, 38 PE7, 39 PE8, 40 PE9, 41 PE10, 42 PE11, 43 PE12, 44 PE13, 45 PE14, 46 PE15, 47 PB10/I2C2_SCL/USART3_TX, 48 PB11/I2C2_SDA/USART3_RX, 49 VSS_1, 50 VDD_1, 51 PB12/SPI2_NSS/I2C2_SMBAI/USART3_CK/TIM1_BKIN, 52 PB13/SPI2_SCK/USART3_CTS/TIM1_CH1N, 53 PB14/SPI2_MISO/USART3_RTS/TIM1_CH2N, 54 PB15/SPI2_MOSI/TIM1_CH3N, 55 PD8, 56 PD9, 57 PD10, 58 PD11, 59 PD12, 60 PD13, 61 PD14, 62 PD15, 63 PC6, 64 PC7, 65 PC8, 66 PC9, 67 PA8/USART1_SCK/TIM1_CH1/MCO, 68 PA9/USART_TX/TIM1_CH2, 69 PA10/USART_RX/TIM1_CH3, 70 PA11/USART1_CTS/CANRX/USBDM/TIM1_CH4, 71 PA12/USART_RTS/CANTX/USBDP/TIM1_ETR, 72 PA13/JTMS/SWDIO, 73 NC, 74 VSS_2, 75 VDD_2, 76 PA14/JTCK/SWCLK, 77 PA15/JTDI/SPI1_NSS, 78 PC10/USART3_TX, 79 PC11/USART3_RX, 80 PC12/USART3_CK, 81 PD0/CANRX, 82 PD1/CANTX, 83 PD2/TIM3_ETR, 84 PD3/USART2_CTS, 85 PD4/USART2_RTS, 86 PD5/USART2_TX, 87 PD6/USART2_RX, 88 PD7/USART2_CK, 89 PB3/JTDO/SPI1_SCK, 90 PB4/JNTRST/SPI1MISO, 91 PB5/I2C1_SMBAI/SPI1_MOSI, 92 PB6/I2C1_SCL/TIM4_CH1/USART1_TX, 93 PB7/I2C1_SDA/TIM4_CH2/USART1_RX, 94 BOOT0, 95 PB8/TIM4_CH3, 96 PB9/TIM4_CH4, 97 PE0/TIM4_ETR, 98 PE1, 99 VSS_3, 100 VDD_3

## STM32F103ZET6
designator U?
footprint LQFP144
pins: 1 PE2/TRACECK/FSMC_A23, 2 PE3/TRACED0/FSMC_A19, 3 PE4/TRACED1/FSMC_A20, 4 PE5/TRACED2/FSMC_A21, 5 PE6/TRACED3/FSMC_A22, 6 VBAT, 7 PC13-TAMPER-RTC, 8 PC14-OSC32_IN, 9 PC15-OSC32_OUT, 10 PF0/FSMC_A0, 11 PF1/FSMC_A1, 12 PF2/FSMC_A2, 13 PF3/FSMC_A3, 14 PF4/FSMC_A4, 15 PF5/FSMC_A5, 16 VSS, 17 VDD, 18 PF6/ADC3_IN4/FSMC_NIORD, 19 PF7/ADC3_IN5/FSMC_NREG, 20 PF8/ADC3_IN6/FSMC_NIOWR, 21 PF9/ADC3_IN7/FSMC_CD, 22 PF10/ADC3_IN8/FSMC_INTR, 23 OSC_IN, 24 OSC_OUT, 25 NRST, 26 PC0/ADC123_IN10, 27 PC1/ADC123_IN11, 28 PC2/ADC123_IN12, 29 PC3/ADC123_IN13, 30 VSSA, 31 Vref-, 32 Vref+, 33 VDDA, 34 PA0-WKUP/USART2_CTS/ADC123_IN0/TIM5_CH1/TIM2_CH1_ETR/TIM8_ETR, 35 PA1/USART2_RTS/ADC123_IN1/TIM5_CH2/TIM2_CH2, 36 PA2/USART2_TX/ADC123_IN2/TIM5_CH3/TIM2_CH3, 37 PA3/USART2_RX/ADC123_IN3/TIM5_CH4/TIM2_CH4, 38 VSS, 39 VDD, 40 PA4/SPI1_NSS/DAC_OUT1/USART2_CK/ADC12_IN4, 41 PA5/SPI1_SCK/DAC_OUT2/ADC12_IN5, 42 PA6/SPI1_MISO/TIM8_BKIN/ADC12_IN6/TIM3_CH1, 43 PA7/SPI1_MOSI/TIM8_CH1N/ADC12_IN7/TIM3_CH2, 44 PC4/ADC12_IN14, 45 PC5/ADC12_IN15, 46 PB0/ADC12_IN8/TIM3_CH3/TIM8_CH2N, 47 PB1/ADC12_IN9/TIM3_CH4/TIM8_CH3N, 48 PB2/BOOT1, 49 PF11/FSMC_NIOS16, 50 PF12/FSMC_A6, 51 VSS, 52 VDD, 53 PF13/FSMC_A7, 54 PF14/FSMC_A8, 55 PF15/FSMC_A9, 56 PG0/FSMC_A10, 57 PG1/FSMC_A11, 58 PE7/FSMC_D4, 59 PE8/FSMC_D5, 60 PE9/FSMC_D6, 61 VSS, 62 VDD, 63 PE10/FSMC_D7, 64 PE11/FSMC_D8, 65 PE12/FSMC_D9, 66 PE13/FSMC_D10, 67 PE14/FSMC_D11, 68 PE15/FSMC_D12, 69 PB10/I2C2_SCL/USART3_TX, 70 PB11/I2C2_SDA/USART3_RX, 71 VSS, 72 VDD, 73 PB12/SPI2_NSS/I2S2_WS/I2C2_SMBAI/USART3_CK/TIM1BKIN, 74 PB13/SPI2_SCK/I2S2_CK/USART3_CTS/TIM1_CH1N, 75 PB14/SPI2_MISO/USART3_RTS/TIM1_CH2N, 76 PB15/SPI2_MOSI/I2S2_SD/TIM1_CH3N, 77 PD8/FSMC_D13, 78 PD9/FSMC_D14, 79 PD10/FSMC_D15, 80 PD11/FSMC_A16, 81 PD12/FSMC_A17, 82 PD13/FSMC_A18, 83 VSS, 84 VDD, 85 PD14/FSMC_D0, 86 PD15/FSMC_D1, 87 PG2/FSMC_A12, 88 PG3/FSMC_A13, 89 PG4/FSMC_A14, 90 PG5/FSMC_A15, 91 PG6/FSMC_INT2, 92 PG7/FSMC_INT3, 93 PG8, 94 VSS, 95 VDD, 96 PC6/I2S2_MCK/TIM8_CH1/SDIO_D6, 97 PC7/I2S3_MCK/TIM8_CH2/SDIO_D7, 98 PC8/TIM8_CH3/SDIO_D0, 99 PC9/TIM8_CH4/SDIO_D1, 100 PA8/USART1_CK/TIM1_CH1/MCO, 101 PA9/USART1_TX/TIM1_CH2, 102 PA10/USART1_RX/TIM1_CH3, 103 PA11/USART1_CTS/CAN_RX/TIM1_CH4/USBDM, 104 PA12/USART1_RTS/CAN_TX/TIM1_ETR/USBDP, 105 PA13/JTMS_SWDIO, 106 NC, 107 VSS, 108 VDD, 109 PA14/JTCK_SWCLK, 110 PA15/JTDI/SPI3_NSS/I2S3_WS, 111 PC10/UART4_TX/SDIO_D2, 112 PC11/UART4_RX/SDIO_D3, 113 PC12/UART5_TX/SDIO_CK, 114 PD0/FSMC_D2, 115 PD1/FSMC_D3, 116 PD2/TIM3_ETR/UART5_RX/SDIO_CMD, 117 PD3/FSMC_CLK, 118 PD4/FSMC_NOE, 119 PD5/FSMC_NWE, 120 VSS, 121 VDD, 122 PD6/FSMC_NWAIT, 123 PD7/FSMC_NE1/FSMC_NCE2, 124 PG9/FSMC_NE2/FSMC_NCE3, 125 PG10/FSMC_NCE4_1/FSMC_NE3, 126 PG11/FSMC_NCE4_2, 127 PG12/FSMC_NE4, 128 PG13/FSMC_A24, 129 PG14/FSMC_A25, 130 VSS, 131 VDD, 132 PG15, 133 PB3/JTDO/TRACESWO/SPI3_SCK/I2S3_CK, 134 PB4/JNTRST/SPI3_MISO, 135 PB5/I2C1_SMBAI/SPI3_MOSI/I2S3_SD, 136 PB6/I2C1_SCL/TIM4_CH1, 137 PB7/I2C1_SDA/FSMC_NADV/TIM4_CH2, 138 BOOT0, 139 PB8/TIM4_CH3/SDIO_D4, 140 PB9/TIM4_CH4/SDIO_D5, 141 PE0/TIM4_ETR/FSMC_NBL0, 142 PE1/FSMC_NBL1, 143 VSS, 144 VDD

## switch
designator switch  (value not drawn)
三接口排针切换; LatestRevisionDate: 17-Jul-2002; LatestRevisionNote: Re-released for DXP Platform.; Publisher: Altium Limited
footprint switch
pins: 1, 2, 3, 4

## TB6612FNG
designator U?
双电机驱动
footprint TB6612
pins: 1 AO1, 3 PGND1, 5 AO2, 7 BO2, 9 PGND2, 11 BO1, 13 VM2+3, 15 PWMB, 16 BIN2, 17 BIN1, 18 GND, 19 STBY, 20 Vcc, 21 AIN1, 22 AIN2, 23 PWMA, 24 VM1

## TC4056A
designator U?
1A锂离子电池电器
footprint SOP-8
pins: 1 TEMP, 2 PROG, 3 GND, 4 VCC, 5 BAT, 6 STDBY, 7 CHRG, 8 CE

## TDA1308
designator U?, comment TDA1308T
footprint SOP-8 (SSOP8)
pins: 1 OUTA, 2 INA-, 3 INA+, 4 VSS, 5 INB+, 6 INB-, 7 OUTB, 8 VDD

## TEST-POINT
designator SP+?, comment SPK+
测试点
footprint TP-1.0 (1.0mm)
footprint TP-1.5 (1.5mm)
pins: 1

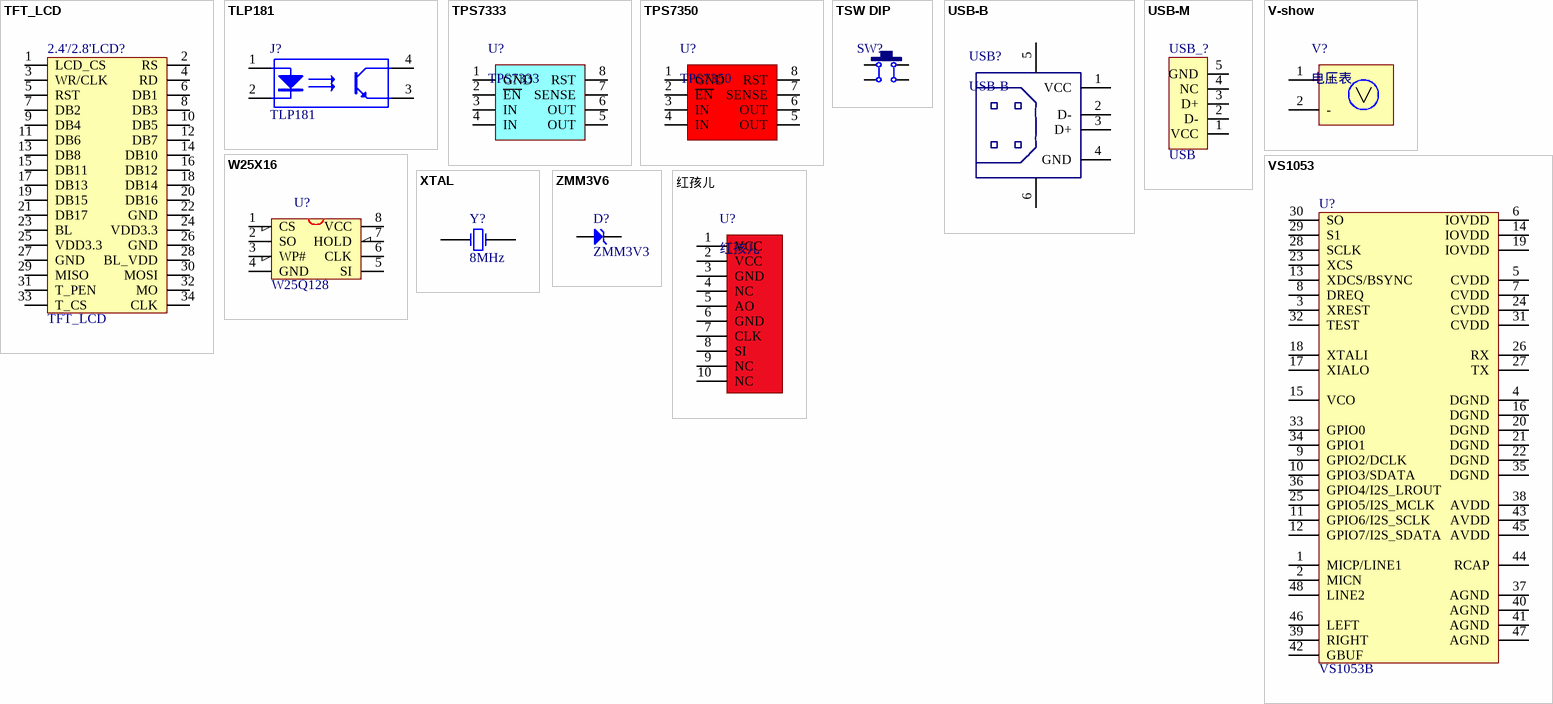
[diagram p4: symbols TFT_LCD to 红孩儿]

## TFT_LCD
designator 2.4'/2.8'LCD?
footprint db2*17-4.3 (DB_LCD-4.3')
pins: 1 LCD_CS, 2 RS, 3 WR/CLK, 4 RD, 5 RST, 6 DB1, 7 DB2, 8 DB3, 9 DB4, 10 DB5, 11 DB6, 12 DB7, 13 DB8, 14 DB10, 15 DB11, 16 DB12, 17 DB13, 18 DB14, 19 DB15, 20 DB16, 21 DB17, 22 GND, 23 BL, 24 VDD3.3, 25 VDD3.3, 26 GND, 27 GND, 28 BL_VDD, 29 MISO, 30 MOSI, 31 T_PEN, 32 MO, 33 T_CS, 34 CLK

## TLP181
designator J?
光耦; Published: 24-Mar-1999; LatestRevisionDate: 04-Mar-2005; LatestRevisionNote: Sch pins 3 & 4 Swapped.; DatasheetDocument: Nov-2003; PackageReference: DIP-4; Publisher: Altium Limited
footprint SOP-4
pins: 1 A "Anode", 2 K "Cathode", 3 E "Emitter", 4 C "Collector"

## TPS7333
designator U?
3.3V稳压芯片
footprint SOP-8
pins: 1 GND, 2 ~{EN}, 3 IN, 4 IN, 5 OUT, 6 OUT, 7 SENSE, 8 RST

## TPS7350
designator U?
5V稳压芯片
footprint SOP-8
pins: 1 GND, 2 ~{EN}, 3 IN, 4 IN, 5 OUT, 6 OUT, 7 SENSE, 8 RST

## TSW DIP
designator SW?
直插轻触开关; BOM名称: 直插6x6轻触开关; 版权归属: 源创客; 学习资源: www.ooocke.com
footprint TSW DIP-6*6*6 (Footprint not found)
footprint TSW DIP-6*6*4.3 (Footprint not found)
footprint TSW DIP-6*6*9 (6*6*9mm)
footprint TSW DIP-6*6*5 (6*6*5mm)
footprint TSW DIP-6*6*7 (6*6*7mm)
footprint TSW DIP-6*6*8 (6*6*8mm)
footprint TSW DIP-6*6*10 (6*6*10mm)
footprint TSW DIP-6*6*11 (6*6*11mm)
footprint TSW DIP-6*6*12 (6*6*12mm)
footprint TSW DIP-6*6*13 (6*6*13mm)
footprint TSW DIP-6*6*14 (6*6*14mm)
footprint TSW DIP-6*6*15 (6*6*15mm)
pins: 1, 2, 3, 4

## USB-B
designator USB?
footprint USB-B (USB方孔)
pins: 1 VCC, 2 D-, 3 D+, 4 GND, 5, 6

## USB-M
designator USB_?, comment USB
footprint USB/SM0.8-6H5
pins: 1 VCC, 2 D-, 3 D+, 4 NC, 5 GND

## V-show
designator V?, comment 电压表
footprint V-show
pins: 1 +, 2 -

## VS1053
designator U?, comment VS1053B
footprint mTQFP48 (5.8mm)
pins: 1 MICP/LINE1, 2 MICN, 3 XREST, 4 DGND, 5 CVDD, 6 IOVDD, 7 CVDD, 8 DREQ, 9 GPIO2/DCLK, 10 GPIO3/SDATA, 11 GPIO6/I2S_SCLK, 12 GPIO7/I2S_SDATA, 13 XDCS/BSYNC, 14 IOVDD, 15 VCO, 16 DGND, 17 XIALO, 18 XTALI, 19 IOVDD, 20 DGND, 21 DGND, 22 DGND, 23 XCS, 24 CVDD, 25 GPIO5/I2S_MCLK, 26 RX, 27 TX, 28 SCLK, 29 S1, 30 SO, 31 CVDD, 32 TEST, 33 GPIO0, 34 GPIO1, 35 DGND, 36 GPIO4/I2S_LROUT, 37 AGND, 38 AVDD, 39 RIGHT, 40 AGND, 41 AGND, 42 GBUF, 43 AVDD, 44 RCAP, 45 AVDD, 46 LEFT, 47 AGND, 48 LINE2

## W25X16
designator U?, comment W25Q128
W25X16;SST25VF016;MX25L1605
footprint SOIC-8 (SOIC)
pins: 1 CS, 2 SO, 3 WP#, 4 GND, 5 SI, 6 CLK, 7 HOLD, 8 VCC

## XTAL
designator Y?, comment 8MHz
无源晶振; Published: 8-Jun-2000; LatestRevisionDate: 17-Jul-2002; LatestRevisionNote: Re-released for DXP Platform.; Publisher: Altium Limited
footprint XTAL_US
footprint XTAL32
pins: 1 OSC1, 2 OSC2

## ZMM3V6
designator D?, comment ZMM3V3
ZMM3V6
footprint DIODE_ZMMx (ZMM3V6)
pins: 1, 2

## 红孩儿
designator U?
footprint PUSH/SM0.5-2H8 (Connector; FH12 Series; 8 Position; 0.5mm Spaced Bottom Contact)
pins: 1 VCC, 2 VCC, 3 GND, 4 NC, 5 AO, 6 GND, 7 CLK, 8 SI, 9 NC, 10 NC